# EAGLE library part HARWIN_2X13 (library DSDEagleLibrary)
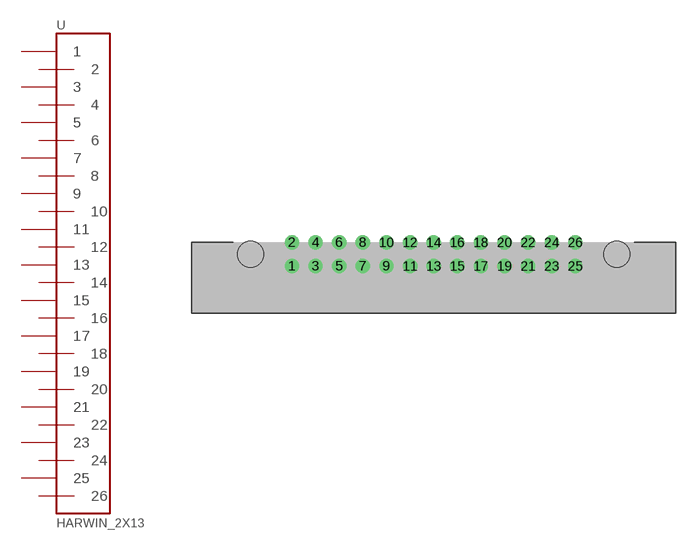
[diagram p18: symbol with the pads of HARWIN_2X13; footprint HARWIN_2X13]

Designator prefix -

## HARWIN_2X13  [HARWIN_2X13]
1  1
2  2
3  3
4  4
5  5
6  6
7  7
8  8
9  9
10  10
11  11
12  12
13  13
14  14
15  15
16  16
17  17
18  18
19  19
20  20
21  21
22  22
23  23
24  24
25  25
26  26

## Footprint HARWIN_2X13 (pad centres in mm)
drill 0.7: 1 -12,2; 2 -12,4; 3 -10,2; 4 -10,4; 5 -8,2; 6 -8,4; 7 -6,2; 8 -6,4; 9 -4,2; 10 -4,4; 11 -2,2; 12 -2,4; 13 0,2; 14 0,4; 15 2,2; 16 2,4; 17 4,2; 18 4,4; 19 6,2; 20 6,4; 21 8,2; 22 8,4; 23 10,2; 24 10,4; 25 12,2; 26 12,4
hole 2.2 at -15.5,3
hole 2.2 at 15.5,3